# Altium footprint library MELF.PcbLib: 3 footprints
Each footprint in its own frame and in the unit in brackets; x right, y up, seen from the top. Pads: shape width x height; smd on the part's side, far side on the other; paste and mask are expansions set on the pad; w line width, h text height; cw(c..) or ccw(c..) is an arc to the next point about the centre after c.
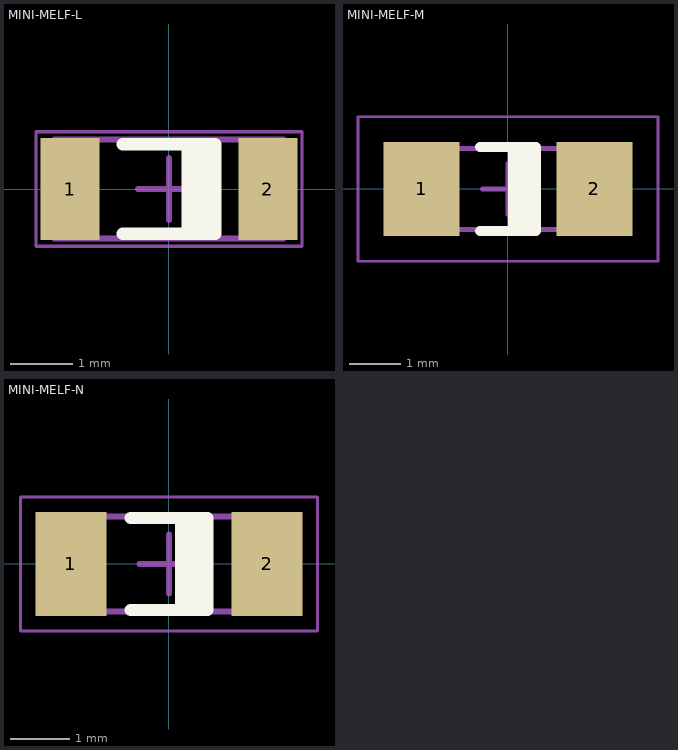
[diagram p0: the footprints below, top view; thin cyan lines are the x and y axes]

## MINI-MELF-L [mm] "MELF Diode, 2-Leads, Body 3,50x1,50mm, IPC High Density"
height 1.6
pads (2):
  rect 0.95x1.65 smd: 1(-1.6,0) 2(1.6,0)
Top Overlay:
  rectangle: 0.2,-0.725 0.75,0.725
  lines w0.2: -0.75,-0.725 0.75,-0.725 0.75,0.725 -0.75,0.725
Mechanical 13:
  lines w0.1: -1.85,-0.8 1.85,-0.8 1.85,0.8 -1.85,0.8 -1.85,-0.8
Mechanical 15:
  lines w0.05: -2.15,-0.925 2.15,-0.925 2.15,0.925 -2.15,0.925 -2.15,-0.925
  lines w0.1: -0.5,0 0.5,0 ; 0,-0.5 0,0.5
3D body "MINI-MELF-L.step": height 1.5, standoff 0.01, extent -1.75,-0.749 1.75,0.749

## MINI-MELF-M [mm] "MELF Diode, 2-Leads, Body 3,50x1,50mm, IPC Low Density"
height 1.6
pads (2):
  rect 1.5x1.85 smd: 1(-1.7,0) 2(1.7,0)
Top Overlay:
  rectangle: 0,-0.825 0.55,0.825
  lines w0.2: -0.55,-0.825 0.55,-0.825 0.55,0.825 -0.55,0.825
Mechanical 13:
  lines w0.1: -1.85,-0.8 1.85,-0.8 1.85,0.8 -1.85,0.8 -1.85,-0.8
Mechanical 15:
  lines w0.05: -2.95,-1.425 2.95,-1.425 2.95,1.425 -2.95,1.425 -2.95,-1.425
  lines w0.1: -0.5,0 0.5,0 ; 0,-0.5 0,0.5
3D body "MINI-MELF-M.step": height 1.5, standoff 0.01, extent -1.75,-0.749 1.75,0.749

## MINI-MELF-N [mm] "MELF Diode, 2-Leads, Body 3,50x1,50mm, IPC Medium Density"
height 1.6
pads (2):
  rect 1.2x1.75 smd: 1(-1.65,0) 2(1.65,0)
Top Overlay:
  rectangle: 0.1,-0.775 0.65,0.775
  lines w0.2: -0.65,-0.775 0.65,-0.775 0.65,0.775 -0.65,0.775
Mechanical 13:
  lines w0.1: -1.85,-0.8 1.85,-0.8 1.85,0.8 -1.85,0.8 -1.85,-0.8
Mechanical 15:
  lines w0.05: -2.5,-1.125 2.5,-1.125 2.5,1.125 -2.5,1.125 -2.5,-1.125
  lines w0.1: -0.5,0 0.5,0 ; 0,-0.5 0,0.5
3D body "MINI-MELF-N.step": height 1.5, standoff 0.01, extent -1.75,-0.749 1.75,0.749